# Altium schematic symbol library Schlib1.SchLib: 1 symbol
Pins are listed as number, name and electrical type; pins without a type are passive.

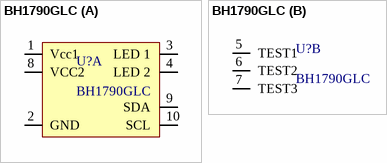
[diagram p0: symbol BH1790GLC]

## BH1790GLC
designator U?
Optical Sensor for Heart Rate Monitor IC
part A pins: 1 Vcc1, 2 GND, 3 LED 1, 4 LED 2, 8 VCC2, 9 SDA, 10 SCL
part B pins: 5 TEST1, 6 TEST2, 7 TEST3